# EAGLE library part SENSOR_INTERFACE (library avc)
Generalized Sensor Interface
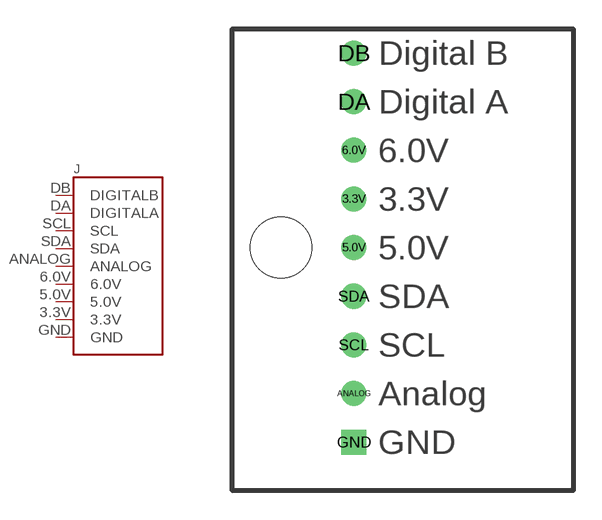
[diagram p4: symbol with the pads of SENSOR_INTERFACE; footprint SENSOR_INTERFACE]

Designator prefix J

## SENSOR_INTERFACE (PARTNUM: -)  [SENSOR_INTERFACE]
3.3V  3.3V
5.0V  5.0V
6.0V  6.0V
ANALOG  ANALOG
DA  DIGITALA
DB  DIGITALB
GND  GND
SCL  SCL
SDA  SDA

## Footprint SENSOR_INTERFACE (pad centres in mm)
drill 0.8 round: 3.3V 3.81,2.54; 5.0V 3.81,0; 6.0V 3.81,5.08; ANALOG 3.81,-7.62; DA 3.81,7.62; DB 3.81,10.16; SCL 3.81,-5.08; SDA 3.81,-2.54
drill 0.8 square: GND 3.81,-10.16
hole 3.2 at 0,0